# Altium schematic symbol library CRCW120612K1FKEA.SchLib: 1 symbol
Pins are listed as number, name and electrical type; pins without a type are passive.

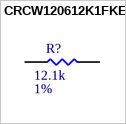
[diagram p0: symbol CRCW120612K1FKEA]

## CRCW120612K1FKEA
designator R?  Tolerance: 1%  Resistance: 12.1k  (hidden comment: CRCW120612K1FKEA)
Thick Film Resistors - SMD 1/4watt 12.1Kohms 1%; MFR: Vishay; Qualifications: AEC-Q200; Power Rating: 1/4W; PN: CRCW120612K1FKEA; ComponentLink1Description: Datasheet; ComponentLink1URL: https://www.mouser.ca/datasheet/2/427/dcrcwe3-1762152.pdf; Footprint: RES1206; Package: 1206; Supplier 1: Digi-Key; Supplier Part Number 1: 541-12.1KFCT-ND
footprint RES1206 (Generic 1206 PCB Footprint)
pins: 1, 2